# EAGLE library part NF51822 (library gee_s)
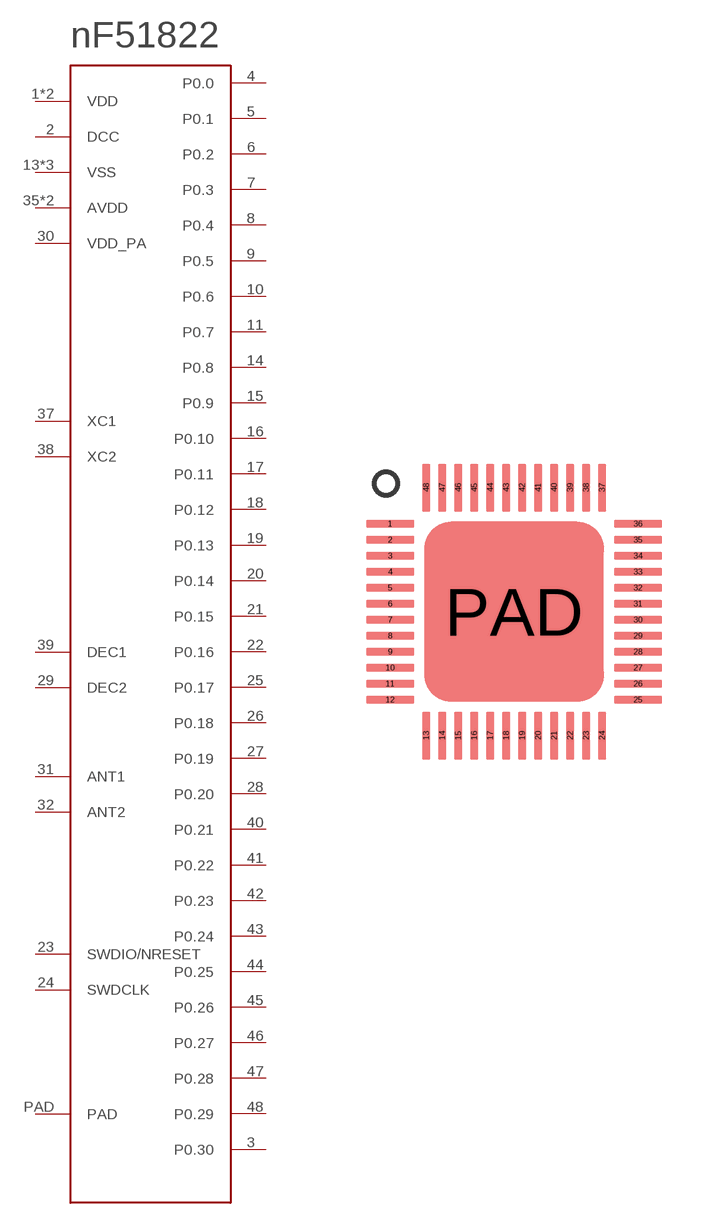
[diagram p24: symbol with the pads of QFN48-0.4; footprint QFN48-0.4]

Designator prefix -

## NF51822  [QFN48-0.4]
1  VDD
2  DCC
3  P0.30
4  P0.0
5  P0.1
6  P0.2
7  P0.3
8  P0.4
9  P0.5
10  P0.6
11  P0.7
12  VDD
13  VSS
14  P0.8
15  P0.9
16  P0.10
17  P0.11
18  P0.12
19  P0.13
20  P0.14
21  P0.15
22  P0.16
23  SWDIO/NRESET
24  SWDCLK
25  P0.17
26  P0.18
27  P0.19
28  P0.20
29  DEC2
30  VDD_PA
31  ANT1
32  ANT2
33  VSS
34  VSS
35  AVDD
36  AVDD
37  XC1
38  XC2
39  DEC1
40  P0.21
41  P0.22
42  P0.23
43  P0.24
44  P0.25
45  P0.26
46  P0.27
47  P0.28
48  P0.29
PAD  PAD

## Footprint QFN48-0.4 (pad centres in mm)
smd 1.2 x 0.2: 1 -3.1,2.2; 2 -3.1,1.8; 3 -3.1,1.4; 4 -3.1,1; 5 -3.1,0.6; 6 -3.1,0.2; 7 -3.1,-0.2; 8 -3.1,-0.6; 9 -3.1,-1; 10 -3.1,-1.4; 11 -3.1,-1.8; 12 -3.1,-2.2; 25 3.1,-2.2; 26 3.1,-1.8; 27 3.1,-1.4; 28 3.1,-1; 29 3.1,-0.6; 30 3.1,-0.2; 31 3.1,0.2; 32 3.1,0.6; 33 3.1,1; 34 3.1,1.4; 35 3.1,1.8; 36 3.1,2.2
smd 0.2 x 1.2: 13 -2.2,-3.1; 14 -1.8,-3.1; 15 -1.4,-3.1; 16 -1,-3.1; 17 -0.6,-3.1; 18 -0.2,-3.1; 19 0.2,-3.1; 20 0.6,-3.1; 21 1,-3.1; 22 1.4,-3.1; 23 1.8,-3.1; 24 2.2,-3.1; 37 2.2,3.1; 38 1.8,3.1; 39 1.4,3.1; 40 1,3.1; 41 0.6,3.1; 42 0.2,3.1; 43 -0.2,3.1; 44 -0.6,3.1; 45 -1,3.1; 46 -1.4,3.1; 47 -1.8,3.1; 48 -2.2,3.1
smd 4.5 x 4.5: PAD 0,0